# Altium footprint library RESAD1625W54L665D240.PcbLib: 1 footprints
Each footprint in its own frame and in the unit in brackets; x right, y up, seen from the top. Pads: shape width x height; smd on the part's side, far side on the other; paste and mask are expansions set on the pad; w line width, h text height; cw(c..) or ccw(c..) is an arc to the next point about the centre after c.
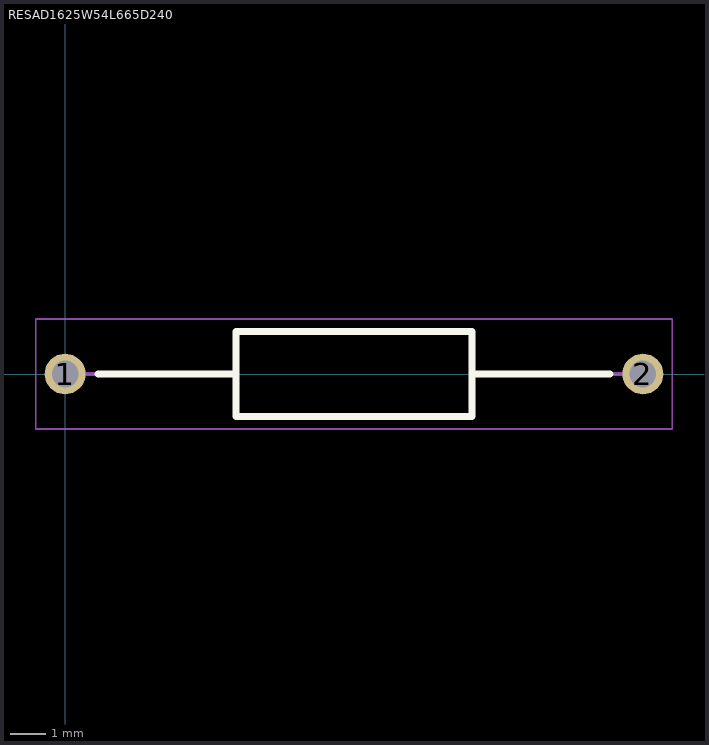
[diagram p0: the footprint, top view; thin cyan lines are the x and y axes]

## RESAD1625W54L665D240 [mm]
pads (2):
  round 1.15 hole 0.75: 1(0,0) 2(16.3,0)
Top Overlay:
  lines w0.2: 0.925,0 4.825,0 ; 11.475,0 15.375,0 ; 4.825,-1.2 11.475,-1.2 11.475,1.2 4.825,1.2 4.825,-1.2
Mechanical 15:
  lines w0.1: 0,0 4.825,0 ; 11.475,0 16.3,0 ; 4.825,-1.2 11.475,-1.2 11.475,1.2 4.825,1.2 4.825,-1.2
Mechanical 20:
  lines w0.05: -0.825,-1.55 17.125,-1.55 17.125,1.55 -0.825,1.55 -0.825,-1.55